# Altium schematic symbol library RESET-3P.SchLib: 1 symbol
Pins are listed as number, name and electrical type; pins without a type are passive.

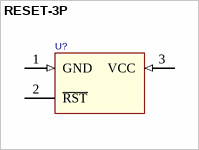
[diagram p0: symbol RESET-3P]

## RESET-3P
designator U?
pins: 1 GND (in), 2 ~{RST} (oc), 3 VCC (in)